# EAGLE library part MPL115A2-12C (library FlashPCB_Sensors)
MPL115A2-12C - Minature I^2C Digital Barometer Technical Specifications: Absolute pressure: 50-115kPa Voltage range: 2.375V - 5.5V Component Search: [DATA SHEET NAME] <[FLASHPCB URL]> Datasheet: MPL115A2-12C Data Sheet <https://www.nxp.com/docs/en/data-sheet/MPL115A2.pdf>
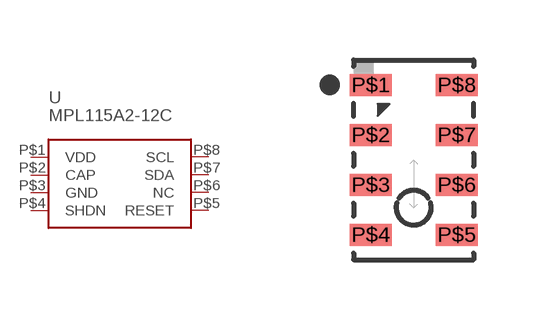
[diagram p16: symbol with the pads of MPL115A2-I2C; footprint MPL115A2-I2C]

Designator prefix U

## MPL115A2-12C  [MPL115A2-I2C]
P$1  VDD  pwr
P$2  CAP  pas
P$3  GND  pwr
P$4  SHDN  in
P$5  RESET  in
P$6  NC  nc
P$7  SDA
P$8  SCL  in

## Footprint MPL115A2-I2C (pad centres in mm)
smd 1.05 x 0.55: P$1 -1.075,1.875; P$2 -1.075,0.625; P$3 -1.075,-0.625; P$4 -1.075,-1.875; P$5 1.075,-1.875; P$6 1.075,-0.625; P$7 1.075,0.625; P$8 1.075,1.875